# Altium integrated library rfid_nfc.IntLib: 3 symbols
Pins are listed as number, name and electrical type; pins without a type are passive.

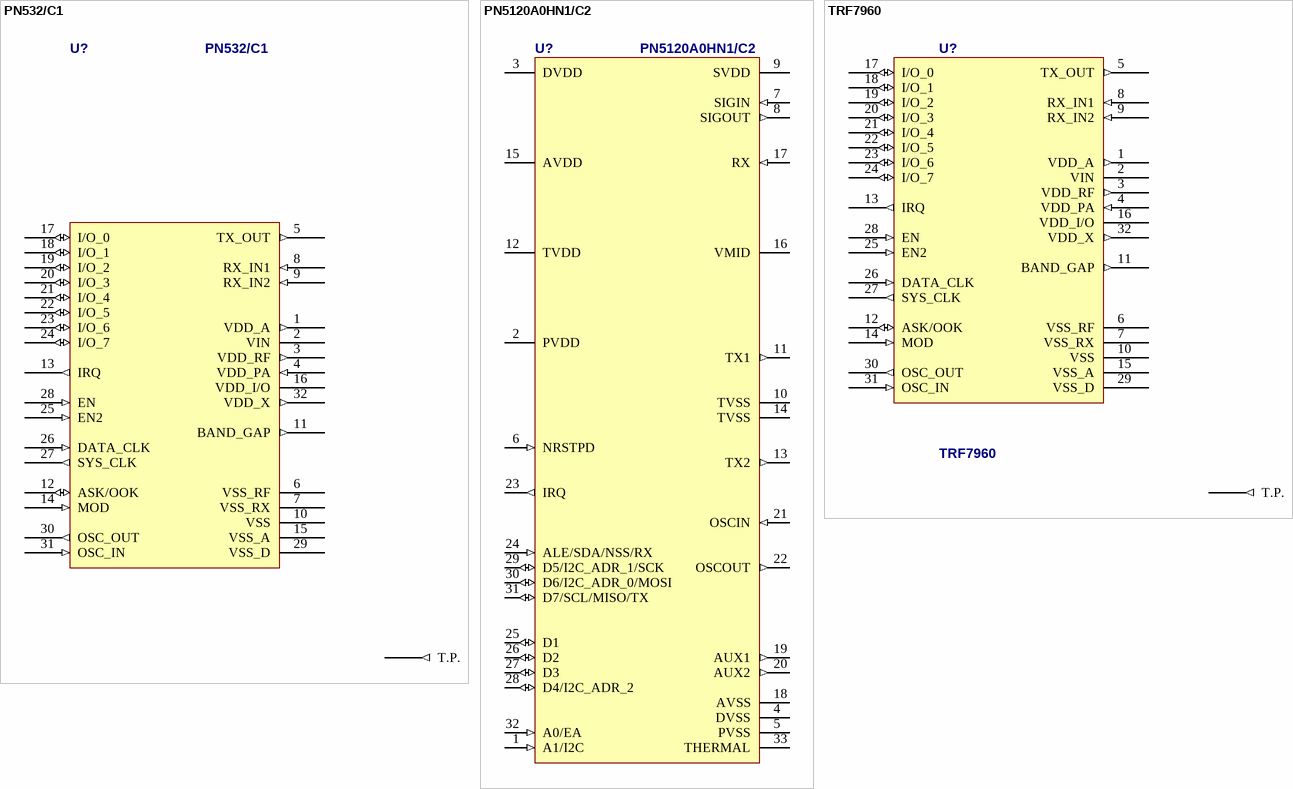
[diagram p0: symbols PN532/C1 to TRF7960]

## PN532/C1
designator U?
NFC controller
footprint QFN50P600X600X80_HS-41N (QFN, 40-Leads, Body 6,00x6,00mm, Pitch 0,50mm, Thermal Pad 4,10x4,10mm, IPC Medium Density)
pins: 1 VDD_A (out), 2 VIN (power), 3 VDD_RF (out), 4 VDD_PA (in), 5 TX_OUT (out), 6 VSS_RF (power), 7 VSS_RX (power), 8 RX_IN1 (in), 9 RX_IN2 (in), 10 VSS (power), 11 BAND_GAP (out), 12 ASK/OOK (io), 13 IRQ (out), 14 MOD (in), 15 VSS_A (power), 16 VDD_I/O (power), 17 I/O_0 (io), 18 I/O_1 (io), 19 I/O_2 (io), 20 I/O_3 (io), 21 I/O_4 (io), 22 I/O_5 (io), 23 I/O_6 (io), 24 I/O_7 (io), 25 EN2 (in), 26 DATA_CLK (in), 27 SYS_CLK (out), 28 EN (in), 29 VSS_D (power), 30 OSC_OUT (out), 31 OSC_IN (in), 32 VDD_X (out), TP T.P. (out) "Thermal Pad"
1 alternate drawing of the same symbol

## PN5120A0HN1/C2
designator U?
Full NFC Forum Compliant Solution
footprint HVQFN32_5x5x0.85 (QFN, 32-Leads, Body 5,00x5,00mm, Pitch 0,50mm, Thermal Pad 3,10x3,10mm, IPC Medium Density)
pins: 1 A1/I2C (in), 2 PVDD (power), 3 DVDD (power), 4 DVSS (power), 5 PVSS (power), 6 NRSTPD (in), 7 SIGIN (in), 8 SIGOUT (out), 9 SVDD (power), 10 TVSS (power), 11 TX1 (out), 12 TVDD (power), 13 TX2 (out), 14 TVSS (power), 15 AVDD (power), 16 VMID (power), 17 RX (in), 18 AVSS (power), 19 AUX1 (out), 20 AUX2 (out), 21 OSCIN (in), 22 OSCOUT (out), 23 IRQ (out), 24 ALE/SDA/NSS/RX (in), 25 D1 (io), 26 D2 (io), 27 D3 (io), 28 D4/I2C_ADR_2 (io), 29 D5/I2C_ADR_1/SCK (io), 30 D6/I2C_ADR_0/MOSI (io), 31 D7/SCL/MISO/TX (io), 32 A0/EA (in), 33 THERMAL (power)

## TRF7960
designator U?
Multi-Standard Fuly Integrated 13,56MHz RFID Analog Front End and Data-Framing Reader System
footprint QFN50P500X500X100_HS-33N (QFN, 32-Leads, Body 5.00x5.00mm, Pitch 0.50mm, Thermal Pad 3.45x3.45mm, IPC Medium Density)
pins: 1 VDD_A (out), 2 VIN (power), 3 VDD_RF (out), 4 VDD_PA (in), 5 TX_OUT (out), 6 VSS_RF (power), 7 VSS_RX (power), 8 RX_IN1 (in), 9 RX_IN2 (in), 10 VSS (power), 11 BAND_GAP (out), 12 ASK/OOK (io), 13 IRQ (out), 14 MOD (in), 15 VSS_A (power), 16 VDD_I/O (power), 17 I/O_0 (io), 18 I/O_1 (io), 19 I/O_2 (io), 20 I/O_3 (io), 21 I/O_4 (io), 22 I/O_5 (io), 23 I/O_6 (io), 24 I/O_7 (io), 25 EN2 (in), 26 DATA_CLK (in), 27 SYS_CLK (out), 28 EN (in), 29 VSS_D (power), 30 OSC_OUT (out), 31 OSC_IN (in), 32 VDD_X (out), TP T.P. (out) "Thermal Pad"
1 alternate drawing of the same symbol